# EAGLE library part MSP430FR5969 (library Micro2)
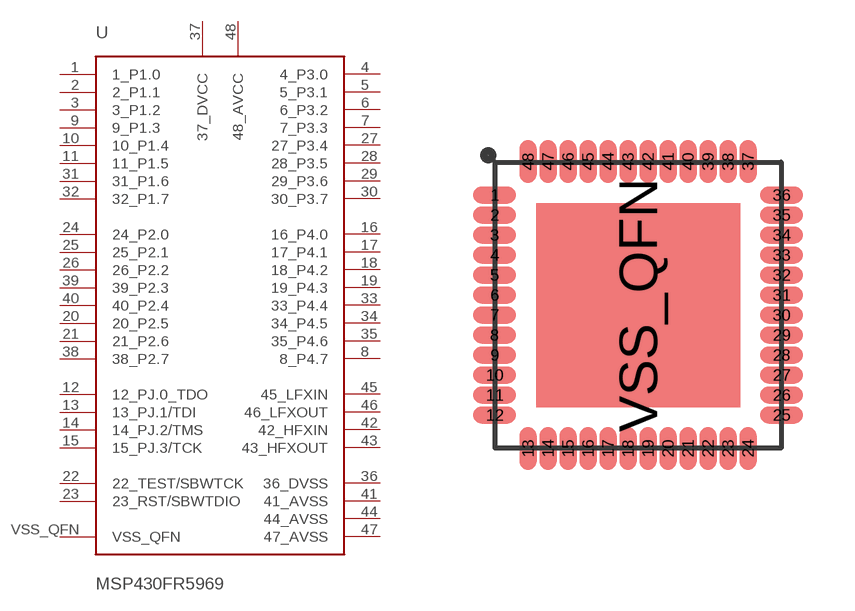
[diagram p13: symbol with the pads of RGZ(S-PQFP-N48); footprint RGZ(S-PQFP-N48)]

Designator prefix U

## MSP430FR5969  [RGZ(S-PQFP-N48)]
1  1_P1.0
2  2_P1.1
3  3_P1.2
4  4_P3.0
5  5_P3.1
6  6_P3.2
7  7_P3.3
8  8_P4.7
9  9_P1.3
10  10_P1.4
11  11_P1.5
12  12_PJ.0_TDO
13  13_PJ.1/TDI
14  14_PJ.2/TMS
15  15_PJ.3/TCK
16  16_P4.0
17  17_P4.1
18  18_P4.2
19  19_P4.3
20  20_P2.5
21  21_P2.6
22  22_TEST/SBWTCK
23  23_RST/SBWTDIO
24  24_P2.0
25  25_P2.1
26  26_P2.2
27  27_P3.4
28  28_P3.5
29  29_P3.6
30  30_P3.7
31  31_P1.6
32  32_P1.7
33  33_P4.4
34  34_P4.5
35  35_P4.6
36  36_DVSS
37  37_DVCC
38  38_P2.7
39  39_P2.3
40  40_P2.4
41  41_AVSS
42  42_HFXIN
43  43_HFXOUT
44  44_AVSS
45  45_LFXIN
46  46_LFXOUT
47  47_AVSS
48  48_AVCC
VSS_QFN  VSS_QFN

## Footprint RGZ(S-PQFP-N48) (pad centres in mm)
TI RGZ Package
smd 1.075 x 0.42: 1 -3.587,2.75; 2 -3.587,2.25; 3 -3.587,1.75; 4 -3.587,1.25; 5 -3.587,0.75; 6 -3.587,0.25; 7 -3.587,-0.25; 8 -3.587,-0.75; 9 -3.587,-1.25; 10 -3.587,-1.75; 11 -3.587,-2.25; 12 -3.587,-2.75; 25 3.587,-2.75; 26 3.587,-2.25; 27 3.587,-1.75; 28 3.587,-1.25; 29 3.587,-0.75; 30 3.587,-0.25; 31 3.587,0.25; 32 3.587,0.75; 33 3.587,1.25; 34 3.587,1.75; 35 3.587,2.25; 36 3.587,2.75
smd 0.42 x 1.075: 13 -2.75,-3.587; 14 -2.25,-3.587; 15 -1.75,-3.587; 16 -1.25,-3.587; 17 -0.75,-3.587; 18 -0.25,-3.587; 19 0.25,-3.587; 20 0.75,-3.587; 21 1.25,-3.587; 22 1.75,-3.587; 23 2.25,-3.587; 24 2.75,-3.587; 37 2.75,3.587; 38 2.25,3.587; 39 1.75,3.587; 40 1.25,3.587; 41 0.75,3.587; 42 0.25,3.587; 43 -0.25,3.587; 44 -0.75,3.587; 45 -1.25,3.587; 46 -1.75,3.587; 47 -2.25,3.587; 48 -2.75,3.587
smd 5.1 x 5.1: VSS_QFN 0,0